# EAGLE library part 79109-22 (library untitled)
RECEPTACAL
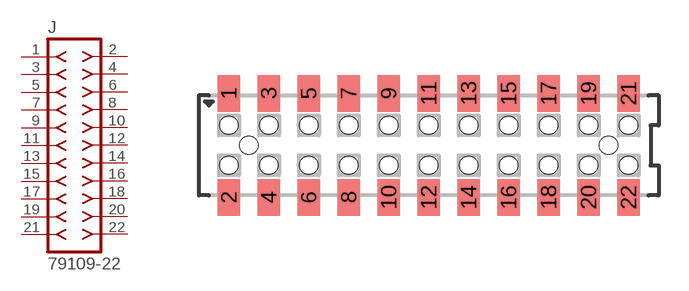
[diagram p168: symbol with the pads of 79109-22; footprint 79109-22]

Designator prefix J

## 79109-22  [79109-22]
1  1  pas
2  2  pas
3  3  pas
4  4  pas
5  5  pas
6  6  pas
7  7  pas
8  8  pas
9  9  pas
10  10  pas
11  11  pas
12  12  pas
13  13  pas
14  14  pas
15  15  pas
16  16  pas
17  17  pas
18  18  pas
19  19  pas
20  20  pas
21  21  pas
22  22  pas

## Footprint 79109-22 (pad centres in mm)
RECEPTACAL SMD Dual Row, Vertical, Pass-Thru
smd 1.12 x 1.83: 1 -10,2.6; 2 -10,-2.6; 3 -8,2.6; 4 -8,-2.6; 5 -6,2.6; 6 -6,-2.6; 7 -4,2.6; 8 -4,-2.6; 9 -2,2.6; 10 -2,-2.6; 11 0,2.6; 12 0,-2.6; 13 2,2.6; 14 2,-2.6; 15 4,2.6; 16 4,-2.6; 17 6,2.6; 18 6,-2.6; 19 8,2.6; 20 8,-2.6; 21 10,2.6; 22 10,-2.6
hole 0.914 at -9,0
hole 0.914 at -10,1
hole 0.914 at -10,-1
hole 0.914 at -8,-1
hole 0.914 at -8,1
hole 0.914 at -6,-1
hole 0.914 at -6,1
hole 0.914 at 9,0
hole 0.914 at -4,1
hole 0.914 at -4,-1
hole 0.914 at -2,1
hole 0.914 at -2,-1
hole 0.914 at 0,1
hole 0.914 at 0,-1
hole 0.914 at 2,1
hole 0.914 at 2,-1
hole 0.914 at 4,-1
hole 0.914 at 4,1
hole 0.914 at 6,1
hole 0.914 at 6,-1
hole 0.914 at 8,1
hole 0.914 at 8,-1
hole 0.914 at 10,1
hole 0.914 at 10,-1